# EAGLE library part RT6200 (library vreg-linear)
RichTek: Adjustable Buck Regulator with integrated switch. 600mA
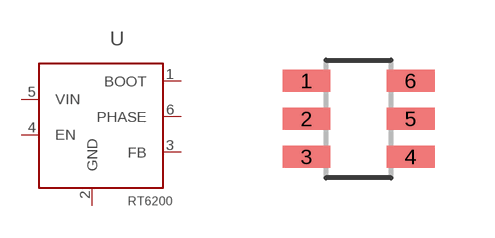
[diagram p8: symbol with the pads of SOT23-6; footprint SOT23-6]

Designator prefix U

## RT6200 (DIGIKEY: RT6200GECT-ND; MFR: RichTek USA; MPN: RT6200GE; P1I: o)  [SOT23-6]
1  BOOT
2  GND
3  FB
4  EN
5  VIN
6  PHASE

## Footprint SOT23-6 (pad centres in mm)
SOT-23 - DBV 0.95 mm pitch
smd 1.2 x 0.55: 1 -1.427,0.95; 2 -1.427,0; 3 -1.427,-0.95; 4 1.173,-0.95; 5 1.173,0; 6 1.173,0.95